# Altium schematic symbol library main.SchLib: 296 symbols (part 2 of 5)
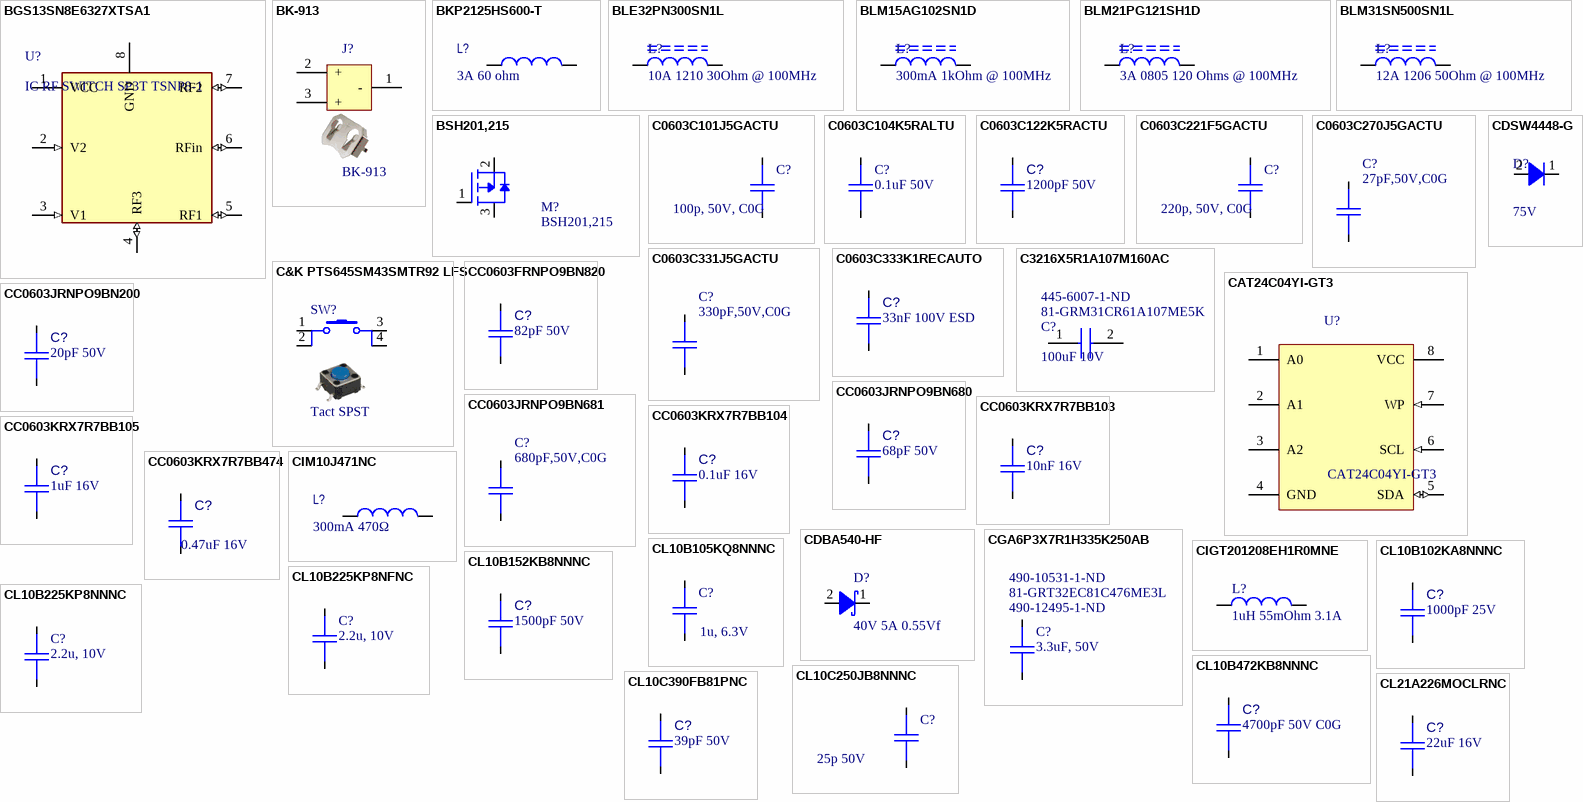
[diagram p10: symbols BGS13SN8E6327XTSA1 to CL21A226MOCLRNC]

## CC0603KRX7R7BB105
designator C?, comment 1uF 16V
CAP CER 1UF 16V X7R 0603; Manufacturer: Yageo; Manufacturer Part Number: CC0603KRX7R7BB105; Tolerance: 10%; Capacitance: 1µF; Stock 1: 165888; Case/Package: 0603; Min Operating Temperature: -55°C; Max Operating Temperature: 125°C; Voltage Rating: 16V; Temperature Coefficient: X7R; Height: 0.8mm; Supplier 1: Digi-Key; Supplier Part Number 1: 311-1446-1-ND
footprint CAPC1608X09N (Chip Capacitor, 2-Leads, Body 1.60x0.80mm, IPC Medium Density)
pins: 1, 2

## CC0603KRX7R7BB474
designator C?, comment 0.47uF 16V
CAP CER 0.47UF 16V X7R 0603; Manufacturer: Yageo; Manufacturer Part Number: CC0603KRX7R7BB474; Tolerance: ±10%; Supplier 1: Digi-Key; Category: Capacitors; Stock 1: 31140; Pricing 1: 1=0.11, 10=0.081, 100=0.0379, 500=0.02656, 1000=0.02198 (USD); Temperature Coefficient: X7R; Operating Temperature: -55°C ~ 125°C; Features: -; Applications: General Purpose; Mounting Type: Surface Mount, MLCC; ComponentLink1URL: http://www.yageo.com/documents/recent/UPY-GPHC_X7R_6.3V-to-50V_18.pdf; ComponentLink1Description: http://www.yageo.com/documents/recent/UPY-GPHC_X7R_6.3V-to-50V_18.pdf; Supplier Part Number 1: 311-1428-1-ND; Capacitance: 0.47uF
footprint CAPC1608X09N (Chip Capacitor, 2-Leads, Body 1.60x0.80mm, IPC Medium Density)
pins: 1, 2

## CDBA540-HF
designator D?, comment 40V 5A 0.55Vf
DIODE SCHOTTKY 40V 5A DO214AC; Manufacturer: Comchip; Manufacturer Part Number: CDBA540-HF; Supplier 1: Digi-Key; Category: Rectifier Diodes; Stock 1: 12236; Pricing 1: 1=0.40000, 10=0.32400, 25=0.29680, 100=0.18630, 250=0.18424, 500=0.17250, 1000=0.11730, 2500=0.11247 (USD); Average Rectified Current: 5A; Max Reverse Voltage (DC): 40V; ComponentLink1URL: http://www.mouser.com/ds/2/80/CDBA520-HF%20Thru134737.%20CDBA5200-HF%20RevB-221146.pdf?src-supplier=Mouser; ComponentLink1Description: http://www.mouser.com/ds/2/80/CDBA520-HF%20Thru134737.%20CDBA5200-HF%20RevB-221146.pdf?src-supplier=Mouser; Supplier Part Number 1: 641-1707-1-ND
footprint DIOM4227X23N (Molded Diode, 2-Leads, Body 4.25x2.67mm, IPC Medium Density)
pins: 1 K, 2 A

## CDSW4448-G
designator D?, comment 75V
DIODE 75V 500mA SOD123; Manufacturer: Comchip; Manufacturer Part Number: CDSW4448-G; Reverse Recovery Time: 4ns; Supplier 1: Digi-Key; Category: Rectifier Diodes; Stock 1: 46907; Pricing 1: 1=0.22000, 10=0.17800, 25=0.14960, 100=0.07300, 500=0.06092, 1000=0.04233 (USD); Max Reverse Voltage (DC): 75V; Average Rectified Current: 500mA; ComponentLink1URL: https://datasheet.ciiva.com/6378/cdsw4448-g20reva270166-6378517.pdf?src-supplier=Digi-Key; ComponentLink1Description: https://datasheet.ciiva.com/6378/cdsw4448-g20reva270166-6378517.pdf?src-supplier=Digi-Key; Supplier Part Number 1: 641-2069-1-ND
footprint TSSOP50P370X135-2N_2 (TSSOP, 2-Leads, Body 1.55x2.70mm, Pitch 0.50mm, IPC Medium Density)
pins: 1 K, 2 A

## CGA6P3X7R1H335K250AB
designator C?, comment 3.3uF, 50V  Supplier Part Number 1: 490-12495-1-ND  Supplier Part Number 2: 81-GRT32EC81C476ME3L  Supplier Part Number 3: 490-10531-1-ND
CAP CER 3.3UF 50V X7R 1210; Manufacturer: TDK; Manufacturer Part Number: CGA6P3X7R1H335K250AB; Tolerance: 10%; Case/Package: 1210; Min Operating Temperature: -55°C; Max Operating Temperature: 125°C; Capacitance: 3.3uF; Temperature Coefficient: X7R; Voltage Rating: 50V; Supplier 1: Digi-Key; Supplier 2: Mouser; Supplier 3: Digi-Key
footprint RESISTOR 1210 (3.2mm x 2.5mm)
pins: 1, 2

## CIGT201208EH1R0MNE
designator L?, comment 1uH 55mOhm 3.1A
IND 1uH 55m 3.1A 0805; Manufacturer: Samsung; Manufacturer Part Number: CIGT201208EH1R0MNE; Core Material: Metal,Composite; Tolerance: 20%; Saturation Current: 3.2A; Shielding: Unshielded; DC Resistance (DCR): 55mR; Test Frequency: 1MHz; Supplier 1: Digi-Key; Stock 1: 32896; Pricing 1: 1=0.36000, 10=0.32200, 100=0.22170, 500=0.18946, 1000=0.14512 (USD); Case/Package: 0805; Min Operating Temperature: -40°C; Max Operating Temperature: 125°C; Inductance: 1uH; Current Rating: 3.1A; ComponentLink1URL: http://www.samsungsem.com/kr/support/product-search/inductor/CIGT201208EH1R0MNE.jsp?src-supplier=Digi-Key; ComponentLink1Description: http://www.samsungsem.com/kr/support/product-search/inductor/CIGT201208EH1R0MNE.jsp?src-supplier=Digi-Key; Supplier Part Number 1: 1276-6886-1-ND
footprint Chip2PinSM127P600-8N
pins: 1, 2

## CIM10J471NC
designator L?, comment 300mA 470Ω
BEAD 300mA 470Ω 0603; Manufacturer: Samsung Electro-Mechanics; Manufacturer Part Number: CIM10J471NC; Impedance @ Frequency: 470 Ohm @ 100MHz; DC Resistance (DCR) (Max): 350 mOhm; Supplier 1: Digi-Key; Supplier Part Number 1: 1276-6380-1-ND; Category: Filters; Stock 1: 6226; Pricing 1: 1=0.1, 10=0.028, 25=0.0248, 50=0.0226, 100=0.0204, 250=0.01496, 500=0.01088, 1000=0.01065 (USD); Current Rating (Max): 300mA; Operating Temperature: -55°C ~ 125°C; Mounting Type: Surface Mount; Height (Max): 0.037" (0.95mm); ComponentLink1URL: http://www.samsungsem.com/kr/support/library/product-catalog/__icsFiles/afieldfile/2014/11/13/Chip_Bead.pdf; ComponentLink1Description: http://www.samsungsem.com/kr/support/library/product-catalog/__icsFiles/afieldfile/2014/11/13/Chip_Bead.pdf
footprint INDC1608X09N (Footprint not found)
pins: 1, 2

## CL10B102KA8NNNC
designator C?, comment 1000pF 25V
CAP CER 1000PF 25V X7R 0603; Manufacturer: Samsung; Manufacturer Part Number: CL10B102KA8NNNC; Tolerance: 10%; Supplier 1: Digi-Key; Category: Ceramic Capacitors; Stock 1: 1909967; Pricing 1: 1=0.10000, 10=0.05000, 100=0.02240, 500=0.01602, 1000=0.01258 (USD); Case/Package: 0603; Min Operating Temperature: -55°C; Max Operating Temperature: 125°C; Temperature Coefficient: X7R; Capacitance: 1000pF; Voltage Rating: 25V; Height: 0.8mm; ComponentLink1URL: https://datasheet.ciiva.com/25741/cl10b102ka8nnnc-25741936.pdf?src-supplier=Digi-Key; ComponentLink1Description: https://datasheet.ciiva.com/25741/cl10b102ka8nnnc-25741936.pdf?src-supplier=Digi-Key; Supplier Part Number 1: 1276-1195-1-ND
footprint CAPC1608X09N (Chip Capacitor, 2-Leads, Body 1.60x0.80mm, IPC Medium Density)
pins: 1, 2

## CL10B105KQ8NNNC
designator C?, comment 1u, 6.3V
CAP CER 1UF 6.3V X7R 0603; Manufacturer: Samsung; Manufacturer Part Number: CL10B105KQ8NNNC; Tolerance: 10%; Supplier 1: Digi-Key; Stock 1: 1839; Pricing 1: 1=0.1, 10=0.047, 100=0.0208, 500=0.01488, 1000=0.01169 (USD); Case/Package: 0603; Min Operating Temperature: -55°C; Max Operating Temperature: 125°C; Capacitance: 1uF; Temperature Coefficient: X7R; Voltage Rating: 6.3V; Height: 0.8mm; ComponentLink1URL: https://datasheet.ciiva.com/15195/getdatasheetpartid-355328-15195730.pdf; ComponentLink1Description: https://datasheet.ciiva.com/15195/getdatasheetpartid-355328-15195730.pdf; Supplier Part Number 1: 1276-1024-1-ND
footprint CAPC1608X09N (Chip Capacitor, 2-Leads, Body 1.60x0.80mm, IPC Medium Density)
pins: 1, 2

## CL10B152KB8NNNC
designator C?, comment 1500pF 50V
CAP CER 1500PF 50V X7R 0603; Manufacturer: Samsung; Manufacturer Part Number: CL10B152KB8NNNC; Tolerance: 10%; Category: Ceramic Capacitors; Stock 1: 272000; Pricing 1: 1=0.10000, 10=0.05000, 100=0.02240, 500=0.01602, 1000=0.01258 (USD); Case/Package: 0603; Min Operating Temperature: -55°C; Max Operating Temperature: 125°C; Temperature Coefficient: X7R; Capacitance: 1500pF; Voltage Rating: 50V; Height: 0.8mm; ComponentLink1URL: https://datasheet.ciiva.com/25741/cl10b102ka8nnnc-25741936.pdf?src-supplier=Digi-Key; ComponentLink1Description: https://datasheet.ciiva.com/25741/cl10b102ka8nnnc-25741936.pdf?src-supplier=Digi-Key; Supplier 1: Digi-Key; Supplier Part Number 1: 311-1184-1-ND
footprint CAPC1608X09N (Chip Capacitor, 2-Leads, Body 1.60x0.80mm, IPC Medium Density)
pins: 1, 2

## CL10B225KP8NFNC
designator C?, comment 2.2u, 10V
CAP CER 2.2UF 10V X7R 0603; Manufacturer: Samsung; Manufacturer Part Number: CL10B225KP8NFNC; Tolerance: 10%; Stock 1: 68723; Pricing 1: 1=0.19, 10=0.133, 100=0.0625, 500=0.04384, 1000=0.0363 (USD); Case/Package: 0603; Min Operating Temperature: -55°C; Max Operating Temperature: 125°C; Capacitance: 2.2uF; Temperature Coefficient: X7R; Voltage Rating: 10V; Height: 0.8mm; Supplier 1: Digi-Key; Supplier Part Number 1: 1276-2016-1-ND
footprint CAPC1608X09N (Chip Capacitor, 2-Leads, Body 1.60x0.80mm, IPC Medium Density)
pins: 1, 2

## CL10B225KP8NNNC
designator C?, comment 2.2u, 10V
CAP CER 2.2UF 10V X7R 0603; Manufacturer: Samsung; Manufacturer Part Number: CL10B225KP8NNNC; Tolerance: 10%; Stock 1: 607; Pricing 1: 1=0.19, 10=0.133, 100=0.0625, 500=0.04384, 1000=0.0363 (USD); Case/Package: 0603; Min Operating Temperature: -55°C; Max Operating Temperature: 125°C; Capacitance: 2.2uF; Temperature Coefficient: X7R; Voltage Rating: 10V; Height: 0.8mm; Supplier 1: Digi-Key; Supplier 2: Newark; Supplier Part Number 2: 82AC9352; Supplier Part Number 1: 1276-1134-1-ND
footprint CAPC1608X09N (Chip Capacitor, 2-Leads, Body 1.60x0.80mm, IPC Medium Density)
pins: 1, 2

## CL10B472KB8NNNC
designator C?, comment 4700pF 50V C0G
CAP CER 4700PF 50V X7R 0603; Manufacturer: Samsung; Manufacturer Part Number: CL10B472KB8NNNC; Capacitance: 4.7nF; Tolerance: +/-10%; Supplier 1: Digi-Key; Category: Ceramic Capacitors; Stock 1: 1879774; Pricing 1: 1=0.10000, 10=0.03800, 100=0.01710, 500=0.01220, 1000=0.00959 (USD); Case/Package: 0603; Min Operating Temperature: -55°C; Max Operating Temperature: 125°C; Temperature Coefficient: C0G; Voltage Rating: 50V; Height: 0.8mm; ComponentLink1URL: https://datasheet.ciiva.com/25709/cl10b472kb8nnnc-25709729.pdf?src-supplier=Digi-Key; ComponentLink1Description: https://datasheet.ciiva.com/25709/cl10b472kb8nnnc-25709729.pdf?src-supplier=Digi-Key; Supplier Part Number 1: 1276-1098-1-ND
footprint CAPC1608X09N (Chip Capacitor, 2-Leads, Body 1.60x0.80mm, IPC Medium Density)
pins: 1, 2

## CL10C250JB8NNNC
designator C?, comment 25p 50V
CAP CER 25PF 50V C0G/NP0 0603; Manufacturer: Samsung; Manufacturer Part Number: CL10C250JB8NNNC; Tolerance: 5%; Temperature Coefficient: C0G; Supplier 1: Digi-Key; Category: Ceramic Capacitors; Stock 1: 184474; Pricing 1: 1=0.10000, 10=0.05600, 100=0.02480, 500=0.01772, 1000=0.01392 (USD); Case/Package: 0603; Min Operating Temperature: -55°C; Max Operating Temperature: 125°C; Capacitance: 25pF; Voltage Rating: 50V; Height: 0.8mm; ComponentLink1URL: https://datasheet.ciiva.com/25769/cl10c250jb8nnnc-25769377.pdf?src-supplier=Digi-Key; ComponentLink1Description: https://datasheet.ciiva.com/25769/cl10c250jb8nnnc-25769377.pdf?src-supplier=Digi-Key; Supplier Part Number 1: 1276-2244-1-ND
footprint CAPC1608X09N (Chip Capacitor, 2-Leads, Body 1.60x0.80mm, IPC Medium Density)
pins: 1, 2

## CL10C390FB81PNC
designator C?, comment 39pF 50V
CAP CER 39PF 50V C0G/NP0 0603; Manufacturer: Samsung; Manufacturer Part Number: CL10C390FB81PNC; Tolerance: 1%; Temperature Coefficient: C0G; Supplier 1: Digi-Key; Category: Ceramic Capacitors; Stock 1: 388,190; Case/Package: 0603; Min Operating Temperature: -55°C; Max Operating Temperature: 125°C; Capacitance: 39pF; Voltage Rating (DC): 50V; Voltage Rating: 50V; Supplier Part Number 1: 1276-2280-1-ND
footprint CAPC1608X09N (Chip Capacitor, 2-Leads, Body 1.60x0.80mm, IPC Medium Density)
pins: 1, 2

## CL21A226MOCLRNC
designator C?, comment 22uF 16V
CAP CER 22UF 16V X5R 0805; Manufacturer: TDK; Manufacturer Part Number: CL21A226MOCLRNC; Tolerance: 20%; Category: Ceramic Capacitors; Min Operating Temperature: -55°C; Max Operating Temperature: 125°C; Temperature Coefficient: X5R; Capacitance: 22uF; Voltage Rating: 16V; Supplier 1: Digi-Key; Supplier Part Number 1: 1276-6780-2-ND; Supplier 2: Mouser; Supplier Part Number 2: 187-CL21A226MOCLRNC
footprint CAPC2012X14N (Chip Capacitor, 2-Leads, Body 2.00x1.25mm, IPC Medium Density)
pins: 1, 2

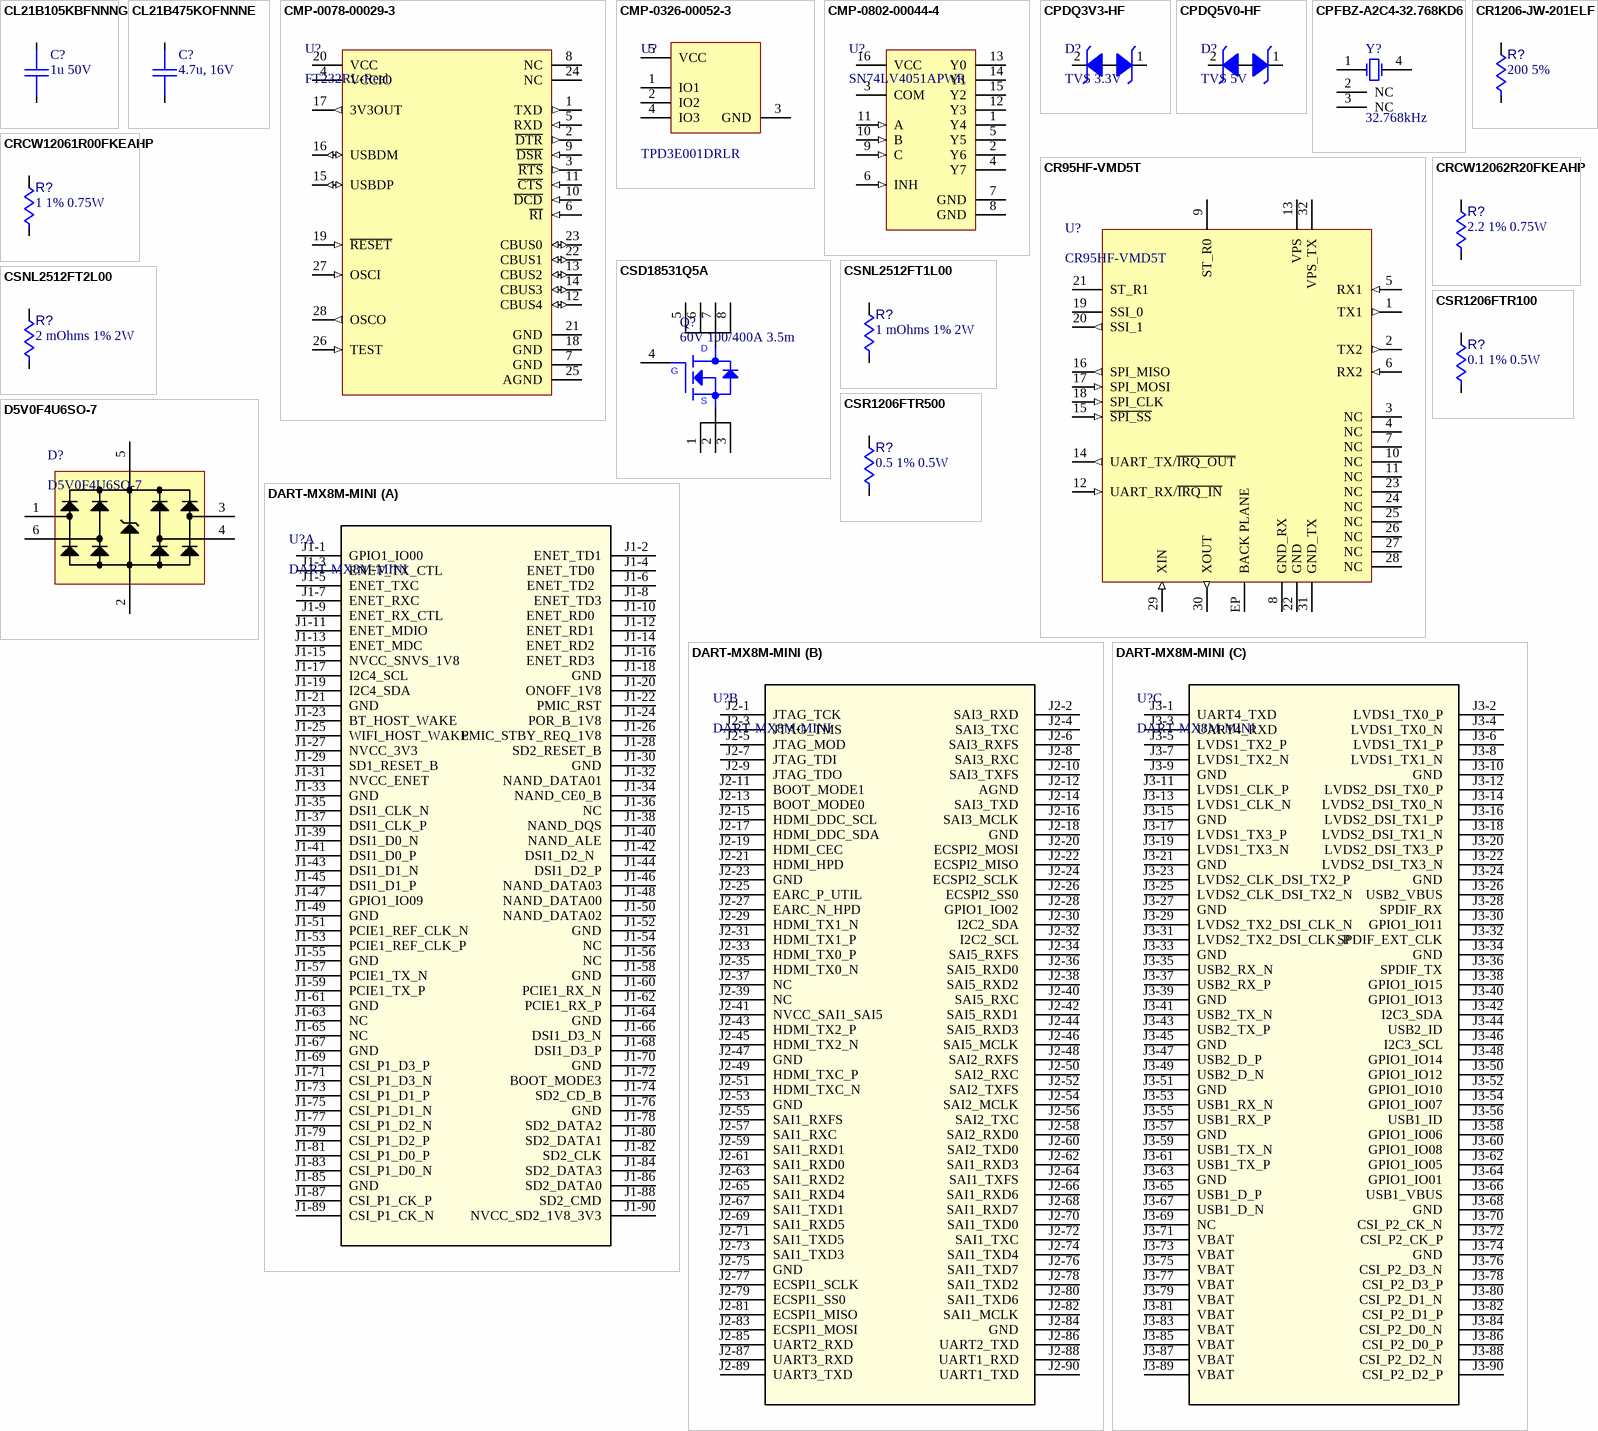
[diagram p2: symbols CL21B105KBFNNNG to DART-MX8M-MINI]

## CL21B105KBFNNNG
designator C?, comment 1u 50V
CAP CER 1UF 50V X7R 0805; Manufacturer: Samsung; Manufacturer Part Number: CL21B105KBFNNNG; Tolerance: 10%; Supplier 1: Digi-Key; Category: Ceramic Capacitors; Stock 1: 1303370; Pricing 1: 1=0.14000, 10=0.09800, 100=0.04590, 500=0.03218, 1000=0.02664 (USD); Case/Package: 0805; Min Operating Temperature: -55°C; Max Operating Temperature: 125°C; Capacitance: 1uF; Voltage Rating: 50V; Temperature Coefficient: X7R; ComponentLink1URL: https://datasheet.ciiva.com/25733/cl21b105kbfnnng-25733278.pdf?src-supplier=Digi-Key; ComponentLink1Description: https://datasheet.ciiva.com/25733/cl21b105kbfnnng-25733278.pdf?src-supplier=Digi-Key; Supplier Part Number 1: 1276-6470-6-ND
footprint CAPC2012X14N (Chip Capacitor, 2-Leads, Body 2.00x1.25mm, IPC Medium Density)
pins: 1, 2

## CL21B475KOFNNNE
designator C?, comment 4.7u, 16V
CAP CER 4.7UF 16V X7R 0805; Manufacturer: Samsung; Manufacturer Part Number: CL21B475KOFNNNE; Tolerance: 10%; Supplier 1: Digi-Key; Category: Ceramic Capacitors; Stock 1: 1359076; Pricing 1: 1=0.38000, 10=0.25800, 100=0.14600, 500=0.10304, 1000=0.09016 (USD); Case/Package: 0805; Min Operating Temperature: -55°C; Max Operating Temperature: 125°C; Temperature Coefficient: X7R; Capacitance: 4.7uF; Voltage Rating: 16V; Height: 1.25mm; ComponentLink1URL: https://datasheet.ciiva.com/15216/getdatasheetpartid-357405-15216237.pdf?src-supplier=Verical; ComponentLink1Description: https://datasheet.ciiva.com/15216/getdatasheetpartid-357405-15216237.pdf?src-supplier=Verical; Supplier Part Number 1: 1276-2873-1-ND
footprint CAPC2012X14N (Chip Capacitor, 2-Leads, Body 2.00x1.25mm, IPC Medium Density)
pins: 1, 2

## CMP-0078-00029-3
designator U?, comment FT232RL-Reel
IC USB UART 28-pin SSOP; Manufacturer: FTDI; Interface: UART,RS-232,RS-422,RS-485; Number of Channels: 1; Max Supply Voltage: 5.25V; Min Supply Voltage: 3.3V; Data Rate: 12Mbps; Operating Supply Current: 15mA; Voltage: 5V; Supplier 1: Digi-Key; Manufacturer Part Number: FT232RL-REEL; Category: Interface ICs; Stock 1: 76948; Pricing 1: 1=4.50000, 10=4.05000, 50=3.85000, 100=3.65000, 250=3.25000, 500=2.85002, 1000=2.65000 (USD); Case/Package: SSOP; Min Operating Temperature: -40°C; Max Operating Temperature: 85°C; Number of Transceivers: 1; Height: 1.75mm; ComponentLink1URL: https://datasheet.ciiva.com/4787/ds-ft232r-11534-4787658.pdf?src-supplier=Mouser; ComponentLink1Description: https://datasheet.ciiva.com/4787/ds-ft232r-11534-4787658.pdf?src-supplier=Mouser; Supplier Part Number 1: 768-1007-6-ND
footprint SSOP-28_N (SOP, 28-Leads, Body 10.2x5.3mm, Pitch 0.65mm, IPC Medium Density)
pins: 1 TXD (out), 2 ~{DTR} (out), 3 ~{RTS} (out), 4 VCCIO (power), 5 RXD (in), 6 ~{RI} (in), 7 GND (power), 8 NC, 9 ~{DSR} (in), 10 ~{DCD} (in), 11 ~{CTS} (in), 12 CBUS4 (io), 13 CBUS2 (io), 14 CBUS3 (io), 15 USBDP (io), 16 USBDM (io), 17 3V3OUT (out), 18 GND (power), 19 ~{RESET} (in), 20 VCC (power), 21 GND (power), 22 CBUS1 (io), 23 CBUS0 (io), 24 NC, 25 AGND (power), 26 TEST (in), 27 OSCI (in), 28 OSCO (out)

## CMP-0326-00052-3
designator U?, comment TPD3E001DRLR
DIODE TVS 3ch high-speed SOT5; Manufacturer: Texas Instruments (TI); Manufacturer Product Page: TPD3E001DRLR Specifications; Product Training Modules: ESD Protection Basics; EDA / CAD Models: Download from Accelerated Designs; Bidirectional Channels: 3; Voltage - Reverse Standoff (Typ): 5.5V (Max); Power - Peak Pulse: 90W; Power Line Protection: Yes; Online Catalog: TPD3E001 Series; Other Names: 296-21885-6; ComponentLink1Description: https://datasheet.ciiva.com/14423/slls683d-14423810.pdf; ComponentLink1URL: https://datasheet.ciiva.com/14423/slls683d-14423810.pdf; Supplier 1: Digikey; Manufacturer Part Number: TPD3E001DRLR; Stock 1: 24000; Pricing 1: 4000=0.2349, 8000=0.2187, 12000=0.2106, 28000=0.2025 (USD); Category: Circuit Protection; Family: TVS - Diodes; Type: Steering (Rail to Rail); Current - Peak Pulse (10/1000µs): -; Applications: General Purpose; Capacitance @ Frequency: -; Operating Temperature: -40°C ~ 85°C (TA); Mounting Type: Surface Mount; Supplier Part Number 1: 296-21885-2-ND
footprint DRL0005A_M (SOT23, 5-Leads, Body 1.7x1.3mm, Pitch 0.5mm, IPC Low Density)
pins: 1 IO1 "ESD-protected channel", 2 IO2 "ESD-protected channel", 3 GND (power) "Ground", 4 IO3 "ESD-protected channel", 5 VCC (power) "Power-supply input. Bypass VCC to GND with a 0.1-uF ceramic Capacitor."

## CMP-0802-00044-4
designator U?, comment SN74LV4051APWR
IC analog MUX 8:1 16TSSOP; Manufacturer: Texas Instruments; Max Supply Voltage: 5.5V; Min Supply Voltage: 2V; Logic Function: Multiplexer,Demultiplexer; Propagation Delay: 12ns; Bandwidth: 35MHz; Number of Channels: 1; Number of Inputs: 8; Nominal Supply Current: 20uA; On-State Resistance: 75R; Turn-On Delay Time: 28ns; Supply Type: Single; Low Level Output Current: 25mA; Supplier 1: Digi-Key; Manufacturer Part Number: SN74LV4051APWR; Category: Interface ICs; Stock 1: 99717; Pricing 1: 1=0.39000, 10=0.33800, 25=0.31520, 100=0.25200, 250=0.23400, 500=0.19800, 1000=0.15300 (USD); Case/Package: TSSOP; Min Operating Temperature: -40°C; Max Operating Temperature: 85°C; Number of Outputs: 1; Number of Bits: 8; Operating Supply Current: 20uA; Turn-Off Delay Time: 28ns; Number of Circuits: 1; High Level Output Current: 25mA; ComponentLink1URL: https://datasheet.ciiva.com/15127/getdatasheetpartid-300450-15127659.pdf?src-supplier=Verical; ComponentLink1Description: https://datasheet.ciiva.com/15127/getdatasheetpartid-300450-15127659.pdf?src-supplier=Verical; Supplier Part Number 1: 296-3829-1-ND
footprint PW0016A_N (SOP, 16-Leads, Body 5.1x4.5mm, Pitch 0.65mm, IPC Medium Density)
pins: 1 Y4, 2 Y6, 3 COM, 4 Y7, 5 Y5, 6 INH (in), 7 GND (power), 8 GND (power), 9 C (in), 10 B (in), 11 A (in), 12 Y3, 13 Y0, 14 Y1, 15 Y2, 16 VCC (power)

## CPDQ3V3-HF
designator D?, comment TVS 3.3V
TVS DIODE 3.3VWM 14.1VC 0402; Manufacturer: Comchip; Manufacturer Part Number: CPDQ3V3-HF; Capacitance: 25pF @ 1MHz; Voltage - Breakdown (Min): 5V; Max Operating Temperature: -40°C ~ 125°C; Voltage - Reverse Standoff (Typ): 3.3V; ComponentLink1URL: http://www.farnell.com/datasheets/2339786.pdf?src-supplier=Farnell; ComponentLink1Description: http://www.farnell.com/datasheets/2339786.pdf?src-supplier=Farnell; Supplier 1: Digi-Key; Supplier Part Number 1: 641-1476-1-ND; Supplier 2: Mouser; Supplier Part Number 2: 750-CPDQ3V3-HF
footprint SOD-923 BIDIRECTIONAL
pins: 1 K, 2 A

## CPDQ5V0-HF
designator D?, comment TVS 5V
TVS DIODE 5VWM 18.6V 0402/SOD923; Manufacturer: Comchip; Manufacturer Part Number: CPDQ5V0-HF; Capacitance: 15pF @ 1MHz; Voltage - Breakdown (Min): 5.6V; Max Operating Temperature: -40°C ~ 125°C; Voltage - Reverse Standoff (Typ): 18.6V; ComponentLink1URL: http://www.farnell.com/datasheets/2339786.pdf?src-supplier=Farnell; ComponentLink1Description: http://www.farnell.com/datasheets/2339786.pdf?src-supplier=Farnell; Supplier 1: Digi-Key; Supplier Part Number 1: 641-1478-1-ND; Supplier 2: Mouser; Supplier Part Number 2: 750-CPDQ5V0-HF
footprint SOD-923 BIDIRECTIONAL
pins: 1 K, 2 A

## CPFBZ-A2C4-32.768KD6
designator Y?, comment 32.768kHz
CRYSTAL 32.7680KHZ 6PF SMD; Manufacturer: Cardinal Components; Manufacturer Part Number: CPFBZ-A2C4-32.768KD6; Frequency Tolerance: ±10ppm; ESR (Equivalent Series Resistance): 50 kOhm; Operating Mode: Fundamental; Category: Crystals and Oscillators; Type: kHz Crystal (Tuning Fork); Frequency: 32.768kHz; Frequency Stability: -; Load Capacitance: 6pF; Operating Temperature: -40°C ~ 85°C; Mounting Type: Surface Mount; Height: 0.098" (2.50mm); ComponentLink1URL: http://www.abracon.com/Resonators/abs25.pdf; ComponentLink1Description: http://www.abracon.com/Resonators/abs25.pdf; Supplier 1: Digi-Key; Supplier Part Number 1: 370-1057-1-ND
footprint SOICJ127P600-8N (Footprint not found)
pins: 1 OSC1, 2 NC, 3 NC, 4 OSC

## CR95HF-VMD5T
designator U?
IC RFID RDR/TRN 13.56MZ 32VFQFPN; Manufacturer: STMicroelectronics; Frequency: 13.56MHz; Standards: ISO 14443, ISO 15693, 18000-3, MIFARE, NFC; Voltage - Supply: 2.7V ~ 5.5V; Manufacturer Part Number: CR95HF-VMD5T; Type: RFID Reader/Transponder; Case/Package: 32-VFQFN Exposed Pad; Operating Temperature: -25°C ~ 85°C (TA); Supplier 1: DigiKey; Supplier Part Number 1: 497-15737-1-ND
footprint VFQFPN-32 5x5mm w EP
pins: 1 TX1 (out), 2 TX2 (out), 3 NC, 4 NC, 5 RX1 (in), 6 RX2 (in), 7 NC, 8 GND_RX (power), 9 ST_R0 (power), 10 NC, 11 NC, 12 UART_RX/~{IRQ_IN} (in), 13 VPS (power), 14 UART_TX/~{IRQ_OUT} (out), 15 ~{SPI_SS} (in), 16 SPI_MISO (out), 17 SPI_MOSI (in), 18 SPI_CLK (in), 19 SSI_0 (power), 20 SSI_1 (out), 21 ST_R1 (power), 22 GND (power), 23 NC, 24 NC, 25 NC, 26 NC, 27 NC, 28 NC, 29 XIN (in), 30 XOUT (out), 31 GND_TX (power), 32 VPS_TX (power), EP BACK PLANE (power)

## CR1206-JW-201ELF
designator R?, comment 200 5%
RES SMD 200 OHM 5% 1/4W 1206; Manufacturer: Bourns; Manufacturer Part Number: CR1206-JW-201ELF; Power (Watts): 0.25W, 1/4W; Temperature Coefficient: ±200ppm/°C; Resistance: 120ohms; Category: Resistors; Tolerance: ±5%; Features: Automotive; Operating Temperature: -55°C ~ 155°C; ComponentLink1URL: http://www.yageo.com/documents/recent/PYu-RC_Group_51_RoHS_L_7.pdf; ComponentLink1Description: http://www.yageo.com/documents/recent/PYu-RC_Group_51_RoHS_L_7.pdf; Supplier 1: Digi-Key; Supplier Part Number 1: CR1206-JW-201ELFCT-ND
footprint RESC3116X65X50NL20T20 (Chip Resistor, 2-Leads, Body 3.10x1.60mm, IPC Medium Density)
pins: 1, 2

## CRCW12061R00FKEAHP
designator R?, comment 1 1% 0.75W
RES SMD 1 OHM 1% 3/4W 1206; Manufacturer: Vishay Dale; Manufacturer Part Number: CRCW12061R00FKEAHP; Temperature Coefficient: 100ppm/°C; Resistance: 1R; Voltage Rating (DC): 200V; Max Power Dissipation: 500mW; Supplier 1: Digi-Key; Category: Chip SMD Resistors; Stock 1: 60222; Pricing 1: 1=0.43000, 10=0.32600, 100=0.13720, 1000=0.07568, 2500=0.07095 (USD); Case/Package: 1206; Min Operating Temperature: -55°C; Max Operating Temperature: 155°C; Tolerance: 1%; Number of Terminations: 2; Voltage Rating: 200V; Power Rating: 500mW; Features: Automotive AEC-Q200; Height: 0.5mm; ComponentLink1URL: https://datasheet.ciiva.com/2602/crcwhpe3-2602800.pdf?src-supplier=Digi-Key; ComponentLink1Description: https://datasheet.ciiva.com/2602/crcwhpe3-2602800.pdf?src-supplier=Digi-Key; Supplier Part Number 1: 541-1.00UCT-ND
footprint RESC3116X65X50NL20T20 (Chip Resistor, 2-Leads, Body 3.10x1.60mm, IPC Medium Density)
pins: 1, 2

## CRCW12062R20FKEAHP
designator R?, comment 2.2 1% 0.75W
RES SMD 2.2 OHM 1% 3/4W 1206; Manufacturer: Vishay Dale; Manufacturer Part Number: CRCW12062R20FKEAHP; Resistance: 2.2R; Temperature Coefficient: 100ppm/°C; Voltage Rating (DC): 200V; Power Rating: 500mW; Supplier 1: Digi-Key; Category: Chip SMD Resistors; Stock 1: 5000; Pricing 1: 1=0.43000, 10=0.32600, 100=0.13720, 1000=0.07568, 2500=0.07095 (USD); Case/Package: 1206; Min Operating Temperature: -55°C; Max Operating Temperature: 155°C; Tolerance: 1%; Voltage Rating: 200V; Height: 0.5mm; ComponentLink1URL: https://datasheet.ciiva.com/8896/crcwhpe3-8896987.pdf?src-supplier=Avnet; ComponentLink1Description: https://datasheet.ciiva.com/8896/crcwhpe3-8896987.pdf?src-supplier=Avnet; Supplier Part Number 1: 541-CRCW12062R20FKEAHPCT-ND
footprint RESC3116X65X50NL20T20 (Chip Resistor, 2-Leads, Body 3.10x1.60mm, IPC Medium Density)
pins: 1, 2

## CSD18531Q5A
designator Q?, comment 60V 100/400A 3.5m
MOSFET N-CH 60V 100A SON8; Manufacturer: Texas Instruments; Manufacturer Part Number: CSD18531Q5A; Rise Time: 7.8ns; Turn-On Delay Time: 4.4ns; Turn-Off Delay Time: 20ns; Fall Time: 2.7ns; Gate to Source Voltage (Vgs): 20V; Rds On Max: 4.6mR; Input Capacitance: 3.84nF; Max Power Dissipation: 3.1W; Element Configuration: Single; Drain to Source Resistance: 4.4mR; Number of Elements: 1; Threshold Voltage: 1.8V; Supplier 1: Mouser; Supplier Part Number 1: 595-CSD18531Q5A; Stock 1: 0; Pricing 1: 1=1.5, 10=1.27, 50=1.27, 100=1.02, 1000=0.737, 10000=0.635 (USD); Min Operating Temperature: -55°C; Max Operating Temperature: 150°C; Continuous Drain Current (ID): 100A; Drain to Source Voltage (Vdss): 60V; Drain to Source Breakdown Voltage: 60V; Power Dissipation: 3.1W; Nominal Vgs: 1.8V; Height: 1.1mm; ComponentLink1URL: https://datasheet.ciiva.com/13063/csd18531q5a-108247-13063440.pdf; ComponentLink1Description: https://datasheet.ciiva.com/13063/csd18531q5a-108247-13063440.pdf
footprint SON5X6_DQJ0008A (TI SON5X6 package MOSFET)
pins: 1 S1, 2 S2, 3 S3, 4 G, 5 D5, 6 D6, 7 D7, 8 D8
text: D; S

## CSNL2512FT1L00
designator R?, comment 1 mOhms 1% 2W
RES 0.001 OHM 1% 2W 2512; Manufacturer: Yageo; Manufacturer Part Number: CSNL2512FT1L00; Temperature Coefficient: ±100ppm/°C; Category: Resistors; Stock 1: 128,087; Tolerance: ±1%; Power (Watts): 2W; Operating Temperature: -55°C ~ 175°C; Supplier 1: Digi-Key; Supplier Part Number 1: CSNL2512FT1L00CT-ND
footprint Resistor 2512 (0.25''x0.125'')
pins: 1, 2

## CSNL2512FT2L00
designator R?, comment 2 mOhms 1% 2W
RES 0.002 OHM 1% 2W 2512; Manufacturer: Stackpole; Manufacturer Part Number: CSNL2512FT2L00; Temperature Coefficient: ±100ppm/°C; Category: Resistors; Stock 1: 42803; Tolerance: ±1%; Power (Watts): 2W; Operating Temperature: -55°C ~ 175°C; Supplier 1: Digi-Key; Supplier Part Number 1: CSNL2512FT2L00CT-ND
footprint Resistor 2512 (0.25''x0.125'')
pins: 1, 2

## CSR1206FTR100
designator R?, comment 0.1 1% 0.5W
RES 0.1 1% 1/2W 1206; Manufacturer: Stackpole Electronics; Manufacturer Part Number: CSR1206FTR100; Temperature Coefficient: 100ppm/°C; Resistance: 100mR; Max Power Dissipation: 500mW; Supplier 1: Digi-Key; Category: Chip SMD Resistors; Stock 1: 297908; Pricing 1: 1=0.40000, 10=0.30400, 25=0.23120, 50=0.17160, 100=0.12760, 250=0.10780, 500=0.09240, 1000=0.07040 (USD); Case/Package: 1206; Min Operating Temperature: -55°C; Max Operating Temperature: 155°C; Tolerance: 1%; Number of Terminations: 2; Height: 0.026inch; ComponentLink1URL: https://datasheet.ciiva.com/26835/getdatasheetpartid-743581-26835493.pdf?src-supplier=Verical; ComponentLink1Description: https://datasheet.ciiva.com/26835/getdatasheetpartid-743581-26835493.pdf?src-supplier=Verical; Supplier Part Number 1: CSR1206FTR100CT-ND
footprint RESC3116X65X50NL20T20 (Chip Resistor, 2-Leads, Body 3.10x1.60mm, IPC Medium Density)
pins: 1, 2

## CSR1206FTR500
designator R?, comment 0.5 1% 0.5W
RES 0.5 1% 1/2W 1206; Manufacturer: Stackpole Electronics; Manufacturer Part Number: CSR1206FTR500; Resistance: 500mR; Power Rating: 500mW; Temperature Coefficient: 100ppm/°C; Supplier 1: Digi-Key; Category: Chip SMD Resistors; Stock 1: 61672; Pricing 1: 1=0.42000, 10=0.29900, 25=0.22080, 50=0.16280, 100=0.11950, 250=0.09876, 500=0.08142, 1000=0.05891 (USD); Case/Package: 1206; Min Operating Temperature: -55°C; Max Operating Temperature: 155°C; Number of Terminations: 2; Tolerance: 1%; Max Power Dissipation: 500mW; Height: 0.026inch; ComponentLink1URL: http://www.seielect.com/Catalog/SEI-csr.pdf?src-supplier=Future+Electronics; ComponentLink1Description: http://www.seielect.com/Catalog/SEI-csr.pdf?src-supplier=Future+Electronics; Supplier Part Number 1: CSR1206FTR500CT-ND
footprint RESC3116X65X50NL20T20 (Chip Resistor, 2-Leads, Body 3.10x1.60mm, IPC Medium Density)
pins: 1, 2

## D5V0F4U6SO-7
designator D?
TVS DIODE 5.5VWM 12VC SOT26; Manufacturer: Diodes Inc; Voltage - Reverse Standoff (Typ): 5.5V (Max); Capacitance: 0.5pF @ 1MHz; Voltage - Breakdown (Min): 6V; Manufacturer Part Number: D5V0F4U6SO-7; Operating Temperature: -65°C ~ 150°C (TJ); ComponentLink1URL: http://www.farnell.com/datasheets/2339786.pdf?src-supplier=Farnell; ComponentLink1Description: http://www.farnell.com/datasheets/2339786.pdf?src-supplier=Farnell; Supplier 1: Digi-Key; Supplier Part Number 1: D5V0F4U6SO-7DICT-ND; Supplier 2: Newark; Supplier Part Number 2: 07AH3833; Supplier 3: Mouser; Supplier Part Number 3: 621-D5V0F4U6SO-7
footprint TSOP 6, Body 3.00x1.5mm, Pitch 0.95mm
pins: 1 D1+, 2 GND, 3 D2+, 4 D2-, 5 NC, 6 D1-

## DART-MX8M-MINI
designator U?
NXP i.MX8M Mini System on module; Manufacturer: Variscite; Data RAM Size: 256kB; Supply Voltage: 3 V to 3.6 V; RAM: 1-4GB LPDDR4; Multimedia: 1080p60 encode/decode and display, HQ audio, HD GPU; WiFi/BT: 802.11 ac/a/b/g/n + BT 4.2/BLE; CPU Type: Cortex™-A53; CPU Cores: 4; CPU Clock: Up to 1.8GHz; RT Coprocessor: 400MHz Cortex™-M4; eMMC: 8 – 64 GB; DSI: MIPI-DSI 1920×1080 24-bit; LVDS: Dual 1920×1080 24-bit; Touch controller: Resistive, Capacitive; DAI: 5 x I2S(SAI), S/PDIF, PDM; SD / MMC: x1; USB Host / Device: USB2.0: 2x OTG; UART: x4, up to 4 Mbps; I2C: x3; RTC: On carrier; Manufacturer Part Number: DART-MX8M-MINI; Temperature Range: -40~85CC; CPU Name: NXP i.MX8M Mini; SPI: x3; JTAG: x1; QSPI: x1
footprint DART_MX8M-MINI
part A pins: J1-1 GPIO1_IO00, J1-2 ENET_TD1, J1-3 ENET_TX_CTL, J1-4 ENET_TD0  , J1-5 ENET_TXC, J1-6 ENET_TD2  , J1-7 ENET_RXC  , J1-8 ENET_TD3, J1-9 ENET_RX_CTL, J1-10 ENET_RD0  , J1-11 ENET_MDIO, J1-12 ENET_RD1  , J1-13 ENET_MDC  , J1-14 ENET_RD2  , J1-15 NVCC_SNVS_1V8  , J1-16 ENET_RD3  , J1-17 I2C4_SCL  , J1-18 GND, J1-19 I2C4_SDA, J1-20 ONOFF_1V8, J1-21 GND, J1-22 PMIC_RST, J1-23 BT_HOST_WAKE, J1-24 POR_B_1V8, J1-25 WIFI_HOST_WAKE, J1-26 PMIC_STBY_REQ_1V8, J1-27 NVCC_3V3, J1-28 SD2_RESET_B, J1-29 SD1_RESET_B, J1-30 GND, J1-31 NVCC_ENET, J1-32 NAND_DATA01, J1-33 GND, J1-34 NAND_CE0_B, J1-35 DSI1_CLK_N, J1-36 NC, J1-37 DSI1_CLK_P, J1-38 NAND_DQS, J1-39 DSI1_D0_N, J1-40 NAND_ALE, J1-41 DSI1_D0_P, J1-42 DSI1_D2_N  , J1-43 DSI1_D1_N, J1-44 DSI1_D2_P, J1-45 DSI1_D1_P, J1-46 NAND_DATA03, J1-47 GPIO1_IO09, J1-48 NAND_DATA00, J1-49 GND, J1-50 NAND_DATA02, J1-51 PCIE1_REF_CLK_N, J1-52 GND, J1-53 PCIE1_REF_CLK_P, J1-54 NC, J1-55 GND, J1-56 NC, J1-57 PCIE1_TX_N  , J1-58 GND, J1-59 PCIE1_TX_P, J1-60 PCIE1_RX_N, J1-61 GND, J1-62 PCIE1_RX_P, J1-63 NC, J1-64 GND, J1-65 NC, J1-66 DSI1_D3_N, J1-67 GND  , J1-68 DSI1_D3_P, J1-69 CSI_P1_D3_P, J1-70 GND, J1-71 CSI_P1_D3_N, J1-72 BOOT_MODE3, J1-73 CSI_P1_D1_P, J1-74 SD2_CD_B, J1-75 CSI_P1_D1_N, J1-76 GND, J1-77 CSI_P1_D2_N, J1-78 SD2_DATA2, J1-79 CSI_P1_D2_P, J1-80 SD2_DATA1, J1-81 CSI_P1_D0_P, J1-82 SD2_CLK, J1-83 CSI_P1_D0_N, J1-84 SD2_DATA3, J1-85 GND, J1-86 SD2_DATA0, J1-87 CSI_P1_CK_P, J1-88 SD2_CMD, J1-89 CSI_P1_CK_N, J1-90 NVCC_SD2_1V8_3V3
part B pins: J2-1 JTAG_TCK  , J2-2 SAI3_RXD  , J2-3 JTAG_TMS  , J2-4 SAI3_TXC  , J2-5 JTAG_MOD  , J2-6 SAI3_RXFS  , J2-7 JTAG_TDI  , J2-8 SAI3_RXC  , J2-9 JTAG_TDO  , J2-10 SAI3_TXFS  , J2-11 BOOT_MODE1  , J2-12 AGND  , J2-13 BOOT_MODE0, J2-14 SAI3_TXD  , J2-15 HDMI_DDC_SCL  , J2-16 SAI3_MCLK  , J2-17 HDMI_DDC_SDA  , J2-18 GND  , J2-19 HDMI_CEC  , J2-20 ECSPI2_MOSI  , J2-21 HDMI_HPD  , J2-22 ECSPI2_MISO  , J2-23 GND  , J2-24 ECSPI2_SCLK  , J2-25 EARC_P_UTIL  , J2-26 ECSPI2_SS0  , J2-27 EARC_N_HPD, J2-28 GPIO1_IO02  , J2-29 HDMI_TX1_N  , J2-30 I2C2_SDA  , J2-31 HDMI_TX1_P  , J2-32 I2C2_SCL  , J2-33 HDMI_TX0_P  , J2-34 SAI5_RXFS  , J2-35 HDMI_TX0_N  , J2-36 SAI5_RXD0  , J2-37 NC  , J2-38 SAI5_RXD2  , J2-39 NC  , J2-40 SAI5_RXC  , J2-41 NVCC_SAI1_SAI5  , J2-42 SAI5_RXD1  , J2-43 HDMI_TX2_P  , J2-44 SAI5_RXD3  , J2-45 HDMI_TX2_N  , J2-46 SAI5_MCLK  , J2-47 GND  , J2-48 SAI2_RXFS  , J2-49 HDMI_TXC_P  , J2-50 SAI2_RXC  , J2-51 HDMI_TXC_N  , J2-52 SAI2_TXFS  , J2-53 GND  , J2-54 SAI2_MCLK  , J2-55 SAI1_RXFS  , J2-56 SAI2_TXC  , J2-57 SAI1_RXC  , J2-58 SAI2_RXD0  , J2-59 SAI1_RXD1  , J2-60 SAI2_TXD0  , J2-61 SAI1_RXD0  , J2-62 SAI1_RXD3  , J2-63 SAI1_RXD2  , J2-64 SAI1_TXFS  , J2-65 SAI1_RXD4  , J2-66 SAI1_RXD6  , J2-67 SAI1_TXD1  , J2-68 SAI1_RXD7  , J2-69 SAI1_RXD5  , J2-70 SAI1_TXD0  , J2-71 SAI1_TXD5  , J2-72 SAI1_TXC  , J2-73 SAI1_TXD3  , J2-74 SAI1_TXD4  , J2-75 GND  , J2-76 SAI1_TXD7  , J2-77 ECSPI1_SCLK  , J2-78 SAI1_TXD2  , J2-79 ECSPI1_SS0  , J2-80 SAI1_TXD6  , J2-81 ECSPI1_MISO  , J2-82 SAI1_MCLK  , J2-83 ECSPI1_MOSI  , J2-84 GND  , J2-85 UART2_RXD  , J2-86 UART2_TXD  , J2-87 UART3_RXD  , J2-88 UART1_RXD  , J2-89 UART3_TXD  , J2-90 UART1_TXD  
part C pins: J3-1 UART4_TXD  , J3-2 LVDS1_TX0_P  , J3-3 UART4_RXD  , J3-4 LVDS1_TX0_N  , J3-5 LVDS1_TX2_P  , J3-6 LVDS1_TX1_P  , J3-7 LVDS1_TX2_N  , J3-8 LVDS1_TX1_N  , J3-9 GND  , J3-10 GND  , J3-11 LVDS1_CLK_P  , J3-12 LVDS2_DSI_TX0_P  , J3-13 LVDS1_CLK_N  , J3-14 LVDS2_DSI_TX0_N  , J3-15 GND  , J3-16 LVDS2_DSI_TX1_P  , J3-17 LVDS1_TX3_P  , J3-18 LVDS2_DSI_TX1_N  , J3-19 LVDS1_TX3_N  , J3-20 LVDS2_DSI_TX3_P  , J3-21 GND  , J3-22 LVDS2_DSI_TX3_N  , J3-23 LVDS2_CLK_DSI_TX2_P  , J3-24 GND  , J3-25 LVDS2_CLK_DSI_TX2_N  , J3-26 USB2_VBUS  , J3-27 GND  , J3-28 SPDIF_RX  , J3-29 LVDS2_TX2_DSI_CLK_N  , J3-30 GPIO1_IO11  , J3-31 LVDS2_TX2_DSI_CLK_P  , J3-32 SPDIF_EXT_CLK  , J3-33 GND  , J3-34 GND  , J3-35 USB2_RX_N  , J3-36 SPDIF_TX  , J3-37 USB2_RX_P  , J3-38 GPIO1_IO15  , J3-39 GND  , J3-40 GPIO1_IO13  , J3-41 USB2_TX_N  , J3-42 I2C3_SDA  , J3-43 USB2_TX_P  , J3-44 USB2_ID  , J3-45 GND  , J3-46 I2C3_SCL  , J3-47 USB2_D_P  , J3-48 GPIO1_IO14  , J3-49 USB2_D_N  , J3-50 GPIO1_IO12  , J3-51 GND  , J3-52 GPIO1_IO10  , J3-53 USB1_RX_N  , J3-54 GPIO1_IO07  , J3-55 USB1_RX_P  , J3-56 USB1_ID  , J3-57 GND  , J3-58 GPIO1_IO06  , J3-59 USB1_TX_N  , J3-60 GPIO1_IO08  , J3-61 USB1_TX_P  , J3-62 GPIO1_IO05  , J3-63 GND  , J3-64 GPIO1_IO01  , J3-65 USB1_D_P  , J3-66 USB1_VBUS  , J3-67 USB1_D_N  , J3-68 GND  , J3-69 NC  , J3-70 CSI_P2_CK_N  , J3-71 VBAT  , J3-72 CSI_P2_CK_P  , J3-73 VBAT  , J3-74 GND  , J3-75 VBAT  , J3-76 CSI_P2_D3_N  , J3-77 VBAT  , J3-78 CSI_P2_D3_P  , J3-79 VBAT  , J3-80 CSI_P2_D1_N  , J3-81 VBAT  , J3-82 CSI_P2_D1_P  , J3-83 VBAT  , J3-84 CSI_P2_D0_N  , J3-85 VBAT  , J3-86 CSI_P2_D0_P  , J3-87 VBAT  , J3-88 CSI_P2_D2_N  , J3-89 VBAT  , J3-90 CSI_P2_D2_P  

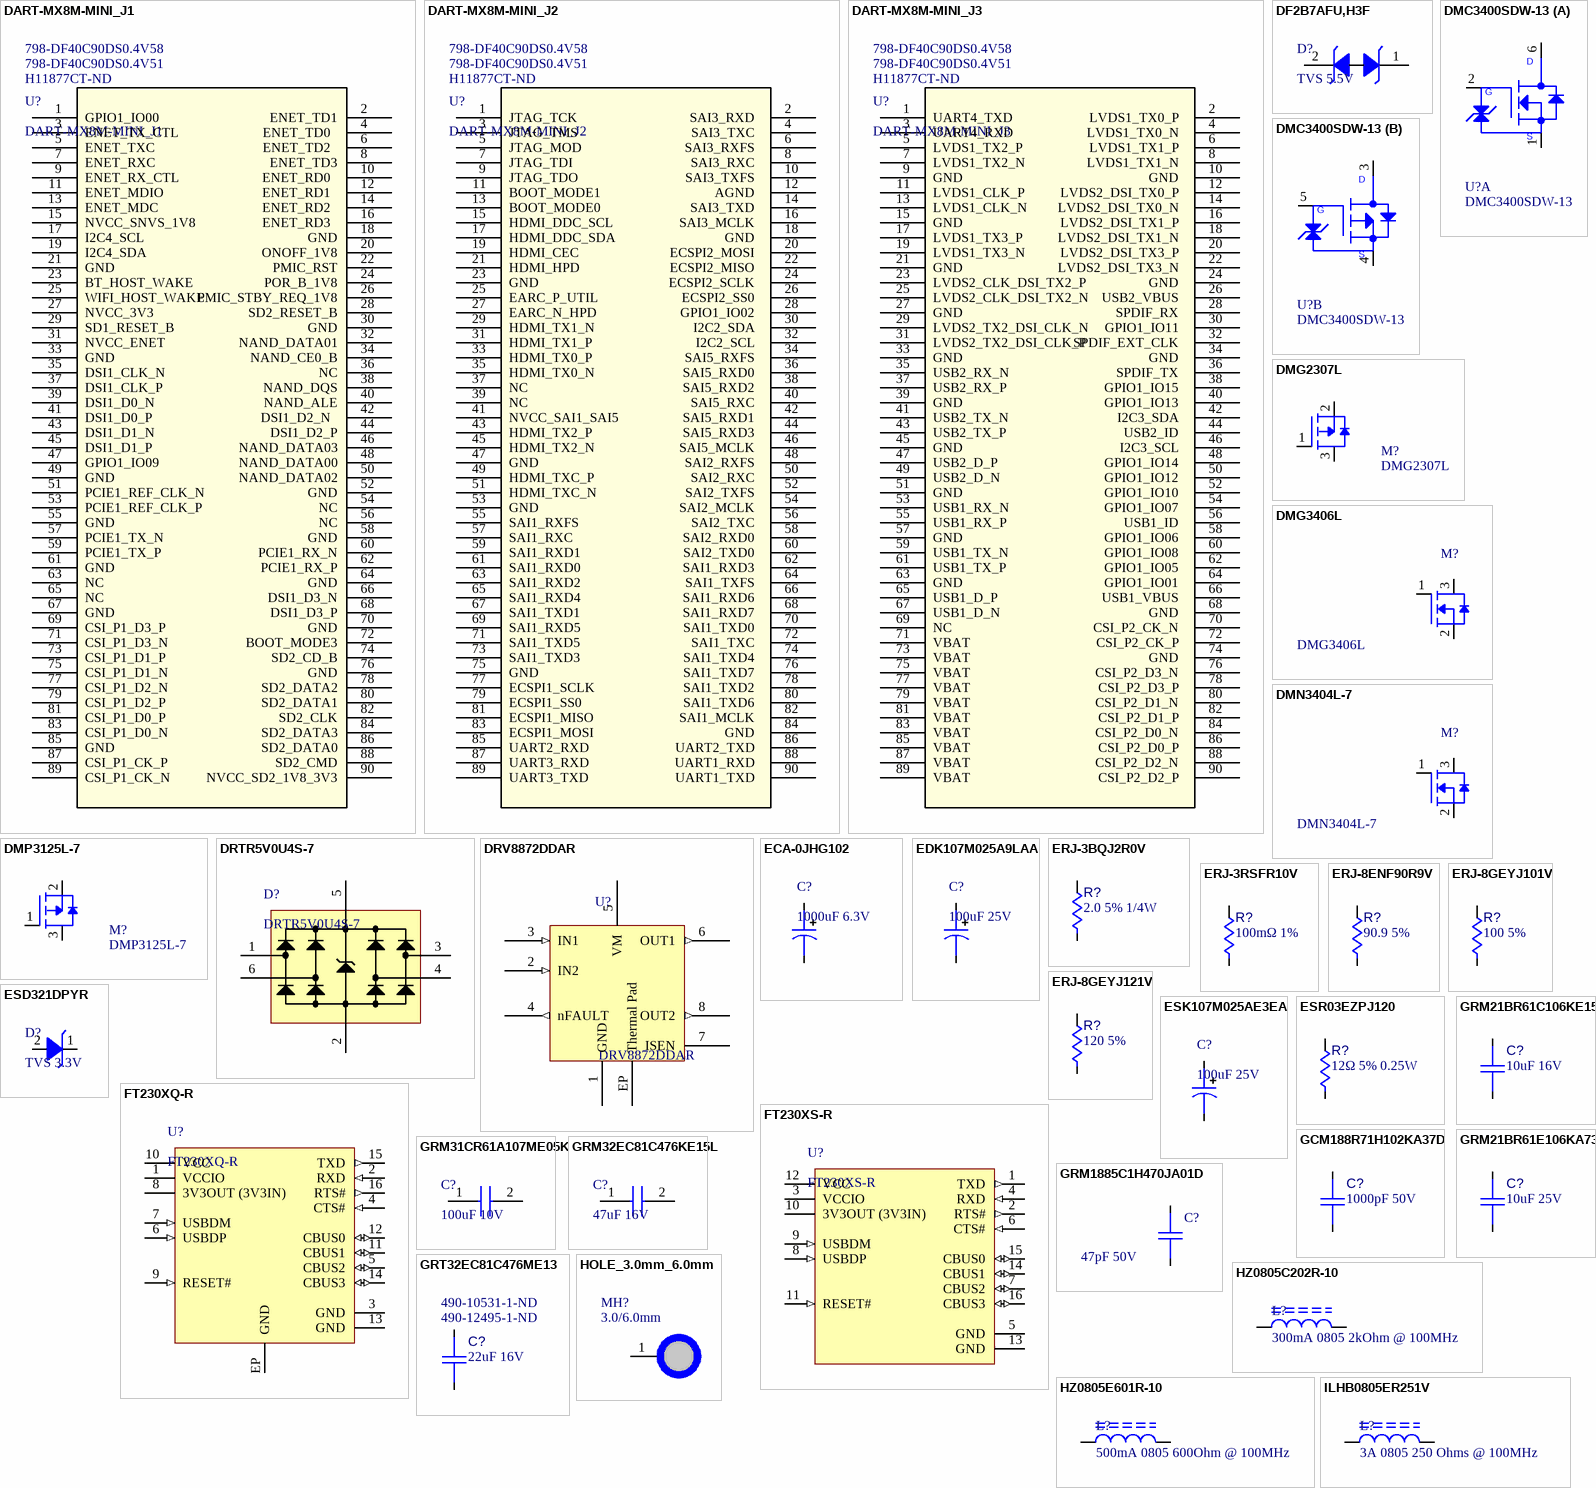
[diagram p3: symbols DART-MX8M-MINI_J1 to ILHB0805ER251V]

## DART-MX8M-MINI_J1
designator U?  Supplier Part Number 1: H11877CT-ND  Supplier Part Number 2: 798-DF40C90DS0.4V51  Supplier Part Number 3: 798-DF40C90DS0.4V58
NXP i.MX8M Mini System on module J1; Manufacturer: Hirose; Manufacturer Part Number: DF40C-90DS-0.4V(51); Number of Positions: 90; Pitch: 0.016" (0.40mm); Number of Rows: 2; Mounting Type: Surface Mount; Supplier 1: Digi-Key; Supplier 2: Mouser; Supplier 3: Mouser
footprint DF40C-90DS-0_4V(51)
pins: 1 GPIO1_IO00, 2 ENET_TD1, 3 ENET_TX_CTL, 4 ENET_TD0  , 5 ENET_TXC, 6 ENET_TD2  , 7 ENET_RXC  , 8 ENET_TD3, 9 ENET_RX_CTL, 10 ENET_RD0  , 11 ENET_MDIO, 12 ENET_RD1  , 13 ENET_MDC  , 14 ENET_RD2  , 15 NVCC_SNVS_1V8  , 16 ENET_RD3  , 17 I2C4_SCL  , 18 GND, 19 I2C4_SDA, 20 ONOFF_1V8, 21 GND, 22 PMIC_RST, 23 BT_HOST_WAKE, 24 POR_B_1V8, 25 WIFI_HOST_WAKE, 26 PMIC_STBY_REQ_1V8, 27 NVCC_3V3, 28 SD2_RESET_B, 29 SD1_RESET_B, 30 GND, 31 NVCC_ENET, 32 NAND_DATA01, 33 GND, 34 NAND_CE0_B, 35 DSI1_CLK_N, 36 NC, 37 DSI1_CLK_P, 38 NAND_DQS, 39 DSI1_D0_N, 40 NAND_ALE, 41 DSI1_D0_P, 42 DSI1_D2_N  , 43 DSI1_D1_N, 44 DSI1_D2_P, 45 DSI1_D1_P, 46 NAND_DATA03, 47 GPIO1_IO09, 48 NAND_DATA00, 49 GND, 50 NAND_DATA02, 51 PCIE1_REF_CLK_N, 52 GND, 53 PCIE1_REF_CLK_P, 54 NC, 55 GND, 56 NC, 57 PCIE1_TX_N  , 58 GND, 59 PCIE1_TX_P, 60 PCIE1_RX_N, 61 GND, 62 PCIE1_RX_P, 63 NC, 64 GND, 65 NC, 66 DSI1_D3_N, 67 GND  , 68 DSI1_D3_P, 69 CSI_P1_D3_P, 70 GND, 71 CSI_P1_D3_N, 72 BOOT_MODE3, 73 CSI_P1_D1_P, 74 SD2_CD_B, 75 CSI_P1_D1_N, 76 GND, 77 CSI_P1_D2_N, 78 SD2_DATA2, 79 CSI_P1_D2_P, 80 SD2_DATA1, 81 CSI_P1_D0_P, 82 SD2_CLK, 83 CSI_P1_D0_N, 84 SD2_DATA3, 85 GND, 86 SD2_DATA0, 87 CSI_P1_CK_P, 88 SD2_CMD, 89 CSI_P1_CK_N, 90 NVCC_SD2_1V8_3V3

## DART-MX8M-MINI_J2
designator U?  Supplier Part Number 1: H11877CT-ND  Supplier Part Number 2: 798-DF40C90DS0.4V51  Supplier Part Number 3: 798-DF40C90DS0.4V58
NXP i.MX8M Mini System on module J2; Manufacturer: Hirose; Manufacturer Part Number: DF40C-90DS-0.4V(51); Number of Positions: 90; Pitch: 0.016" (0.40mm); Number of Rows: 2; Mounting Type: Surface Mount; Supplier 1: Digi-Key; Supplier 2: Mouser; Supplier 3: Mouser
footprint DF40C-90DS-0_4V(51)
pins: 1 JTAG_TCK  , 2 SAI3_RXD  , 3 JTAG_TMS  , 4 SAI3_TXC  , 5 JTAG_MOD  , 6 SAI3_RXFS  , 7 JTAG_TDI  , 8 SAI3_RXC  , 9 JTAG_TDO  , 10 SAI3_TXFS  , 11 BOOT_MODE1  , 12 AGND  , 13 BOOT_MODE0, 14 SAI3_TXD  , 15 HDMI_DDC_SCL  , 16 SAI3_MCLK  , 17 HDMI_DDC_SDA  , 18 GND  , 19 HDMI_CEC  , 20 ECSPI2_MOSI  , 21 HDMI_HPD  , 22 ECSPI2_MISO  , 23 GND  , 24 ECSPI2_SCLK  , 25 EARC_P_UTIL  , 26 ECSPI2_SS0  , 27 EARC_N_HPD, 28 GPIO1_IO02  , 29 HDMI_TX1_N  , 30 I2C2_SDA  , 31 HDMI_TX1_P  , 32 I2C2_SCL  , 33 HDMI_TX0_P  , 34 SAI5_RXFS  , 35 HDMI_TX0_N  , 36 SAI5_RXD0  , 37 NC  , 38 SAI5_RXD2  , 39 NC  , 40 SAI5_RXC  , 41 NVCC_SAI1_SAI5  , 42 SAI5_RXD1  , 43 HDMI_TX2_P  , 44 SAI5_RXD3  , 45 HDMI_TX2_N  , 46 SAI5_MCLK  , 47 GND  , 48 SAI2_RXFS  , 49 HDMI_TXC_P  , 50 SAI2_RXC  , 51 HDMI_TXC_N  , 52 SAI2_TXFS  , 53 GND  , 54 SAI2_MCLK  , 55 SAI1_RXFS  , 56 SAI2_TXC  , 57 SAI1_RXC  , 58 SAI2_RXD0  , 59 SAI1_RXD1  , 60 SAI2_TXD0  , 61 SAI1_RXD0  , 62 SAI1_RXD3  , 63 SAI1_RXD2  , 64 SAI1_TXFS  , 65 SAI1_RXD4  , 66 SAI1_RXD6  , 67 SAI1_TXD1  , 68 SAI1_RXD7  , 69 SAI1_RXD5  , 70 SAI1_TXD0  , 71 SAI1_TXD5  , 72 SAI1_TXC  , 73 SAI1_TXD3  , 74 SAI1_TXD4  , 75 GND  , 76 SAI1_TXD7  , 77 ECSPI1_SCLK  , 78 SAI1_TXD2  , 79 ECSPI1_SS0  , 80 SAI1_TXD6  , 81 ECSPI1_MISO  , 82 SAI1_MCLK  , 83 ECSPI1_MOSI  , 84 GND  , 85 UART2_RXD  , 86 UART2_TXD  , 87 UART3_RXD  , 88 UART1_RXD  , 89 UART3_TXD  , 90 UART1_TXD  

## DART-MX8M-MINI_J3
designator U?  Supplier Part Number 1: H11877CT-ND  Supplier Part Number 2: 798-DF40C90DS0.4V51  Supplier Part Number 3: 798-DF40C90DS0.4V58
NXP i.MX8M Mini System on module J3; Manufacturer: Hirose; Manufacturer Part Number: DF40C-90DS-0.4V(51); Number of Positions: 90; Pitch: 0.016" (0.40mm); Number of Rows: 2; Mounting Type: Surface Mount; Supplier 1: Digi-Key; Supplier 2: Mouser; Supplier 3: Mouser
footprint DF40C-90DS-0_4V(51)
pins: 1 UART4_TXD  , 2 LVDS1_TX0_P  , 3 UART4_RXD  , 4 LVDS1_TX0_N  , 5 LVDS1_TX2_P  , 6 LVDS1_TX1_P  , 7 LVDS1_TX2_N  , 8 LVDS1_TX1_N  , 9 GND  , 10 GND  , 11 LVDS1_CLK_P  , 12 LVDS2_DSI_TX0_P  , 13 LVDS1_CLK_N  , 14 LVDS2_DSI_TX0_N  , 15 GND  , 16 LVDS2_DSI_TX1_P  , 17 LVDS1_TX3_P  , 18 LVDS2_DSI_TX1_N  , 19 LVDS1_TX3_N  , 20 LVDS2_DSI_TX3_P  , 21 GND  , 22 LVDS2_DSI_TX3_N  , 23 LVDS2_CLK_DSI_TX2_P  , 24 GND  , 25 LVDS2_CLK_DSI_TX2_N  , 26 USB2_VBUS  , 27 GND  , 28 SPDIF_RX  , 29 LVDS2_TX2_DSI_CLK_N  , 30 GPIO1_IO11  , 31 LVDS2_TX2_DSI_CLK_P  , 32 SPDIF_EXT_CLK  , 33 GND  , 34 GND  , 35 USB2_RX_N  , 36 SPDIF_TX  , 37 USB2_RX_P  , 38 GPIO1_IO15  , 39 GND  , 40 GPIO1_IO13  , 41 USB2_TX_N  , 42 I2C3_SDA  , 43 USB2_TX_P  , 44 USB2_ID  , 45 GND  , 46 I2C3_SCL  , 47 USB2_D_P  , 48 GPIO1_IO14  , 49 USB2_D_N  , 50 GPIO1_IO12  , 51 GND  , 52 GPIO1_IO10  , 53 USB1_RX_N  , 54 GPIO1_IO07  , 55 USB1_RX_P  , 56 USB1_ID  , 57 GND  , 58 GPIO1_IO06  , 59 USB1_TX_N  , 60 GPIO1_IO08  , 61 USB1_TX_P  , 62 GPIO1_IO05  , 63 GND  , 64 GPIO1_IO01  , 65 USB1_D_P  , 66 USB1_VBUS  , 67 USB1_D_N  , 68 GND  , 69 NC  , 70 CSI_P2_CK_N  , 71 VBAT  , 72 CSI_P2_CK_P  , 73 VBAT  , 74 GND  , 75 VBAT  , 76 CSI_P2_D3_N  , 77 VBAT  , 78 CSI_P2_D3_P  , 79 VBAT  , 80 CSI_P2_D1_N  , 81 VBAT  , 82 CSI_P2_D1_P  , 83 VBAT  , 84 CSI_P2_D0_N  , 85 VBAT  , 86 CSI_P2_D0_P  , 87 VBAT  , 88 CSI_P2_D2_N  , 89 VBAT  , 90 CSI_P2_D2_P  

## DF2B7AFU,H3F
designator D?, comment TVS 5.5V
TVS BIDIRECTIONAL +/-5.8V; Manufacturer: Toshiba; Manufacturer Part Number: DF2B7AFU,H3F; Voltage - Reverse Standoff (Typ): 5.5V (Max); Capacitance: 8.5pF @ 1MHz; Voltage - Breakdown (Min): 5.8V; Max Operating Temperature: 150°C; ComponentLink1URL: http://www.farnell.com/datasheets/2339786.pdf?src-supplier=Farnell; ComponentLink1Description: http://www.farnell.com/datasheets/2339786.pdf?src-supplier=Farnell; Supplier 1: Digi-Key; Supplier Part Number 1: DF2B7AFUH3FCT-ND
footprint SOD-323 BIDIRECTIONAL
pins: 1 K, 2 A

## DMC3400SDW-13
designator U?
MOSFET N/P-CH 30V 0.5A SOT363; Manufacturer: Diodes; Continuous Drain Current (ID): 450mA; Rds On Max: 400mR; Input Capacitance: 55pF; Max Power Dissipation: 310mW; FET Type: N and P-Channel; Supplier 1: Digi-Key; Manufacturer Part Number: DMC3400SDW-13; Category: MOSFETs; Stock 1: 34048; Pricing 1: 1=0.39000, 10=0.29100, 25=0.25440, 100=0.13820, 250=0.13744, 500=0.11272, 1000=0.08363, 2500=0.07345, 5000=0.06727 (USD); Case/Package: SOT-363; Min Operating Temperature: -55°C; Max Operating Temperature: 150°C; Drain to Source Voltage (Vdss): 30V; ComponentLink1URL: http://www.mouser.com/ds/2/115/DMC3400SDW-537739.pdf?src-supplier=Mouser; ComponentLink1Description: http://www.mouser.com/ds/2/115/DMC3400SDW-537739.pdf?src-supplier=Mouser; Supplier Part Number 1: DMC3400SDW-13DICT-ND
footprint SOT65P210X110-6N
part A pins: 1 S1, 2 G, 6 S2
part B pins: 3 D, 4 S1, 5 G
part A text: S
part B text: S

## DMG2307L
designator M?
MOSFET P-CH 30V 3A SOT-23; Manufacturer: Diodes; Manufacturer Part Number: DMG2307L-7; Continuous Drain Current (ID): 3.8A; Rise Time: 7.3ns; Fall Time: 13.4ns; Turn-Off Delay Time: 22.4ns; Max Power Dissipation: 760mW; Turn-On Delay Time: 4.8ns; Gate to Source Voltage (Vgs): 20V; Rds On Max: 90mR; Input Capacitance: 371.3pF; Power Dissipation: 1.36W; Number of Elements: 1; Element Configuration: Single; Supplier 1: Digi-Key; Supplier Part Number 1: DMG2307L-7DIDKR-ND; Stock 1: 74000; Pricing 1: 1=0.48, 10=0.342, 100=0.2243, 500=0.1326, 1000=0.102 (USD); Case/Package: SOT-23; Min Operating Temperature: -55°C; Max Operating Temperature: 150°C; Drain to Source Voltage (Vdss): 30V; Drain to Source Resistance: 90mR; Number of Channels: 1; Height: 1mm
footprint SOT23 TI# SOT-23 3L (SOT23, 3-Leads, Body 2.92x2.40mm, Pitch 0.95mm, IPC Medium Density)
pins: 1 G, 2 S, 3 D

## DMG3406L
designator M?
MOSFET N-CH 30V 3.6A SOT23; Manufacturer: Diodes; Rds On Max: 50mR; Input Capacitance: 495pF; Max Power Dissipation: 770mW; Manufacturer Part Number: DMG3406L; Category: MOSFETs; Stock 1: 197180; Pricing 1: 1=0.40000, 10=0.29900, 25=0.26160, 100=0.14200, 250=0.14124, 500=0.11584, 1000=0.08595, 2500=0.07549, 5000=0.06913 (USD); Case/Package: TO-236-3; Min Operating Temperature: -55°C; Max Operating Temperature: 150°C; Drain to Source Voltage (Vdss): 30V; Continuous Drain Current (ID): 3.6A; ComponentLink1URL: http://www.mouser.com/ds/2/115/DMG3406L-537746.pdf?src-supplier=Mouser; ComponentLink1Description: http://www.mouser.com/ds/2/115/DMG3406L-537746.pdf?src-supplier=Mouser; Supplier 1: Digi-Key; Supplier Part Number 1: DMG3406L-7DICT-ND; Supplier 2: Mouser; Supplier Part Number 2: 621-DMG3406L-13; Supplier 3: Newark; Supplier Part Number 3: 88AH8620; Supplier 4: Digi-Key; Supplier Part Number 4: DMG3406L-13DIDKR-ND
footprint SOT23 TI# SOT-23 3L (SOT23, 3-Leads, Body 2.92x2.40mm, Pitch 0.95mm, IPC Medium Density)
pins: 1 G, 2 S, 3 D

## DMN3404L-7
designator M?
MOSFET N-CH 30V 5.8A SOT23-3; Manufacturer: Diodes; Continuous Drain Current (ID): 3.6A; Rds On Max: 28mOhm @ 5.8A, 10V; Input Capacitance: 386pF @ 15V; Max Power Dissipation: 720mW; Manufacturer Part Number: DMN3404L-7; Category: MOSFETs; Stock 1: 274,873; Pricing 1: 1=0.40000, 10=0.29900, 25=0.26160, 100=0.14200, 250=0.14124, 500=0.11584, 1000=0.08595, 2500=0.07549, 5000=0.06913 (USD); Case/Package: SOT-23-3; Min Operating Temperature: -55°C; Max Operating Temperature: 150°C; Drain to Source Voltage (Vdss): 30V; Supplier 1: Digi-Key; Supplier Part Number 1: DMN3404LDICT-ND
footprint SOT23 TI# SOT-23 3L (SOT23, 3-Leads, Body 2.92x2.40mm, Pitch 0.95mm, IPC Medium Density)
pins: 1 G, 2 S, 3 D

## DMP3125L-7
designator M?
MOSFET P-CHAN 30V SOT23; Manufacturer: Diodes; Continuous Drain Current (ID): 2.5A; Turn-Off Delay Time: 22.4ns; Max Power Dissipation: 650mW; Gate to Source Voltage (Vgs): +/-20V; Rds On Max: 95mOhm @ 3.8A, 10V; Input Capacitance: 254pF @ 25V; Power Dissipation: 1.2W; Number of Elements: 1; Element Configuration: Single; Supplier 1: Digi-Key; Supplier Part Number 1: DMG2307L-7DIDKR-ND; Manufacturer Part Number: DMP3125L; Stock 1: 45,536; Pricing 1: 1=0.48, 10=0.342, 100=0.2243, 500=0.1326, 1000=0.102 (USD); Case/Package: SOT-23; Min Operating Temperature: -55°C; Max Operating Temperature: 150°C; Drain to Source Voltage (Vdss): 30V; Number of Channels: 1; Height: 1mm
footprint SOT23 TI# SOT-23 3L (SOT23, 3-Leads, Body 2.92x2.40mm, Pitch 0.95mm, IPC Medium Density)
pins: 1 G, 2 S, 3 D

## DRTR5V0U4S-7
designator D?
TVS DIODE 5.5VWM 12VC SOT26; Manufacturer: Diodes Inc; Voltage - Reverse Standoff (Typ): 5.5V (Max); Capacitance: 0.6pF @ 1MHz; Voltage - Breakdown (Min): 6V; Manufacturer Part Number: DRTR5V0U4S-7; Operating Temperature: -65°C ~ 150°C (TJ); ComponentLink1URL: http://www.farnell.com/datasheets/2339786.pdf?src-supplier=Farnell; ComponentLink1Description: http://www.farnell.com/datasheets/2339786.pdf?src-supplier=Farnell; Supplier 1: Digi-Key; Supplier 2: Mouser; Supplier 3: Arrow Electronics; Supplier Part Number 1: DRTR5V0U4S-7DICT-ND; Supplier Part Number 2: 621-DRTR5V0U4S-7; Supplier Part Number 3: DRTR5V0U4S-7
footprint SOT65P210X110-6N
pins: 1 D1+, 2 GND, 3 D2+, 4 D2-, 5 NC, 6 D1-

## DRV8872DDAR
designator U?
IC MOTOR DRVR UNIPLR 8SO PWRPAD; Manufacturer: Texas Instruments; Motor Type: Brushed DC; Output Configuration: Half Bridge (2); Current - Output: 3.6A; Voltage - Supply: 0V ~ 5.5V; Interface: PWM; Voltage - Load: 6.5V ~ 45V; Manufacturer Part Number: DRV8872DDAR; Stock 1: 21,046; Operating Temperature: -40°C ~ 150°C (TJ); Applications: DC Motors, General Purpose, Stepper Motors; Supplier 1: Digi-Key; Supplier Part Number 1: 296-42661-1-ND
footprint 8-SO PowerPad
pins: 1 GND (power), 2 IN2 (in), 3 IN1 (in), 4 nFAULT (out), 5 VM (power), 6 OUT1 (out), 7 ISEN (power), 8 OUT2 (out), EP Thermal Pad (power)

## ECA-0JHG102
designator C?, comment 1000uF 6.3V
CAP ALUM 1000UF 20% 6.3V RADIAL; Manufacturer: Panasonic; Manufacturer Part Number: ECA-0JHG102; Dielectric Material: Aluminium; Lifetime @ Temp.: 1000 Hrs @ 105°C; Category: Aluminum Electrolytic Capacitors; Case/Package: Radial; Capacitance: 1000uF; Tolerance: 20%; Voltage Rating: 6.3 V; ComponentLink1URL: https://datasheet.ciiva.com/96/e-wt-96659.pdf?src-supplier=Digi-Key; ComponentLink1Description: https://datasheet.ciiva.com/96/e-wt-96659.pdf?src-supplier=Digi-Key; Supplier 1: Digi-Key; Supplier Part Number 1: P5509-ND; Supplier 2: Mouser; Supplier Part Number 2: 667-ECA-0JHG102; Supplier 3: Future Electronics; Supplier Part Number 3: 8028630
footprint Panasonic ECA-0JHG102
pins: 1, 2

## EDK107M025A9LAA
designator C?, comment 100uF 25V
CAP ALUM 100UF 20% 25V SMD; Manufacturer: KEMET; Manufacturer Part Number: EDK107M025A9LAA; Dielectric Material: Aluminium; Category: Aluminum Electrolytic Capacitors; Case/Package: Radial; Min Operating Temperature: -40°C; Max Operating Temperature: 85°C; Capacitance: 100uF; Tolerance: 20%; Voltage Rating: 25V; ComponentLink1URL: https://datasheet.ciiva.com/96/e-wt-96659.pdf?src-supplier=Digi-Key; ComponentLink1Description: https://datasheet.ciiva.com/96/e-wt-96659.pdf?src-supplier=Digi-Key; Supplier 1: Digi-Key; Supplier Part Number 1: 399-EDK107M025A9LAACT-ND; Supplier 2: Mouser; Supplier Part Number 2: 80-EDK107M025A9LAA
footprint NIchicon UWX series (Nichicon UWX series)
pins: 1, 2

## ERJ-3BQJ2R0V
designator R?, comment 2.0 5% 1/4W
RES SMD 2 OHM 5% 1/4W 0603; Manufacturer: Panasonic; Manufacturer Part Number: ERJ-3BQJ2R0V; Resistance: 2R; Max Power Dissipation: 250mW; Temperature Coefficient: 200ppm/°C; Supplier 1: Digi-Key; Supplier Part Number 1: P17414DKR-ND; Stock 1: 17619; Pricing 1: 1=0.3, 10=0.25, 100=0.0977, 1000=0.04088, 2500=0.03748 (USD); Case/Package: 0603; Min Operating Temperature: -55°C; Max Operating Temperature: 125°C; Number of Terminations: 2; Tolerance: 5%; Height: 0.022inch; ComponentLink1URL: http://www.mouser.com/ds/2/315/AOA0000C295-1109214.pdf; ComponentLink1Description: http://www.mouser.com/ds/2/315/AOA0000C295-1109214.pdf
footprint RESC1608X06N (Chip Resistor, 2-Leads, Body 1.60x0.80mm, IPC Medium Density)
pins: 1, 2

## ERJ-3RSFR10V
designator R?, comment 100mΩ 1%
RES 0.1 OHM 1% 1/10W 0603; Manufacturer: Panasonic; Manufacturer Part Number: ERJ-3RSFR10V; Temperature Coefficient: 300ppm/°C; Category: Chip SMD Resistors; Case/Package: 0603; Min Operating Temperature: -55°C; Max Operating Temperature: 155°C; Resistance: 100mΩ; Tolerance: 1%; ComponentLink1URL: https://www.seielect.com/catalog/sei-rmcf_rmcp.pdf?src-supplier=Digi-Key; ComponentLink1Description: https://www.seielect.com/catalog/sei-rmcf_rmcp.pdf?src-supplier=Digi-Key; Supplier 1: Future Electronics; Supplier Part Number 1: 5103905
footprint RESC1608X06N (Chip Resistor, 2-Leads, Body 1.60x0.80mm, IPC Medium Density)
pins: 1, 2

## ERJ-8ENF90R9V
designator R?, comment 90.9 5%
RES SMD 90.9 OHM 1% 1/4W 1206; Manufacturer: Panasonic; Manufacturer Part Number: ERJ-8ENF90R9V; Power (Watts): 0.25W, 1/4W; Temperature Coefficient: ±100ppm/°C; Resistance: 90.9ohms; Category: Resistors; Tolerance: ±5%; Features: Automotive; Operating Temperature: -55°C ~ 155°C; ComponentLink1URL: http://www.yageo.com/documents/recent/PYu-RC_Group_51_RoHS_L_7.pdf; ComponentLink1Description: http://www.yageo.com/documents/recent/PYu-RC_Group_51_RoHS_L_7.pdf; Supplier 1: Digi-Key; Supplier Part Number 1: P90.9FCT-ND
footprint RESC3116X65X50NL20T20 (Chip Resistor, 2-Leads, Body 3.10x1.60mm, IPC Medium Density)
pins: 1, 2

## ERJ-8GEYJ101V
designator R?, comment 100 5%
RES SMD 100 OHM 5% 1/4W 1206; Manufacturer: Panasonic; Manufacturer Part Number: ERJ-8GEYJ101V; Power (Watts): 0.25W, 1/4W; Temperature Coefficient: ±200ppm/°C; Resistance: 100ohms; Category: Resistors; Tolerance: ±5%; Features: Automotive; Operating Temperature: -55°C ~ 155°C; ComponentLink1URL: http://www.yageo.com/documents/recent/PYu-RC_Group_51_RoHS_L_7.pdf; ComponentLink1Description: http://www.yageo.com/documents/recent/PYu-RC_Group_51_RoHS_L_7.pdf; Supplier 1: Digi-Key; Supplier Part Number 1: P100ECT-ND
footprint RESC3116X65X50NL20T20 (Chip Resistor, 2-Leads, Body 3.10x1.60mm, IPC Medium Density)
pins: 1, 2